# Altium schematic symbol library SCH - POWER - LINEAR VREG - TI LMS8117ADT-3.3.SchLib: 1 symbol
Pins are listed as number, name and electrical type; pins without a type are passive.

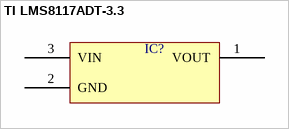
[diagram p0: symbol TI LMS8117ADT-3.3]

## TI LMS8117ADT-3.3
designator IC?  (value not drawn)
pins: 1 VOUT, 2 GND, 3 VIN